# Altium schematic symbol library FerriteBeads.SchLib: 1 symbol
Pins are listed as number, name and electrical type; pins without a type are passive.

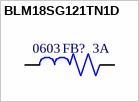
[diagram p0: symbol BLM18SG121TN1D]

## BLM18SG121TN1D
designator FB?, comment value 3A  Package: 0603  (hidden comment: 120 Ohms @ 100 MHz 1 Power Line Ferrite Bead 0603 (1608 Metric) 3A 25mOhm)
Ferrite Beads Multi-Layer 120Ohm 25% 100MHz 3A 0.025Ohm DCR 0603 T/R; Manufacturer: Murata; Manufacturer Part Number: BLM18SG121TN1D; Material: Steel,Ferrite; Impedance: 120R; Number of Lines: 1; DC Resistance (DCR): 25mR; Shielding: Unshielded; Supplier: Mouser; Supplier Part Number: 81-BLM18SG121TN1D; Category: Ferrite Beads and Chips; Stock: 158335; Pricing: 1=0.13, 10=0.073, 50=0.073, 100=0.051, 500=0.043, 1000=0.041, 2500=0.039, 5000=0.033, 10000=0.03 (USD); Case/Package: 0603; Pins: 2; Core Material: Ferrite; Case Code (Metric): 1608; Case Code (Imperial): 0603; Min Operating Temperature: -55°C; Max Operating Temperature: 125°C; Package Quantity: 1; Max Current Rating: 3A; Tolerance: 25%; Packaging: Tape and Reel; Current Rating: 3A; Max DC Current: 3A; Termination: SMD/SMT; Test Frequency: 100MHz; Frequency: 100MHz; Number of Circuits: 1; Series: BLM18S; DC Resistance-Max: 25mR; RMS Current (Irms): 3A; ESR: 25mR; Length: 1.6mm; Width: 0.8mm; Height: 0.8mm; Depth: 0.8mm; Reach SVHC Compliant: No; Lead Free: Lead Free; RoHS Compliant: Yes; ComponentLink1URL: https://datasheet.ciiva.com/1012/l0110s0100blm18s-1012624.pdf?src-supplier=Digikey; ComponentLink1Description: https://datasheet.ciiva.com/1012/l0110s0100blm18s-1012624.pdf?src-supplier=Digikey; ComponentLink2URL: https://datasheet.ciiva.com/11799/0900766b811b5866-11799181.pdf?src-supplier=Rs; ComponentLink2Description: https://datasheet.ciiva.com/11799/0900766b811b5866-11799181.pdf?src-supplier=Rs; ComponentLink3URL: https://datasheet.ciiva.com/18093/getdatasheetpartid-295885-18093249.pdf?src-supplier=Verical; ComponentLink3Description: https://datasheet.ciiva.com/18093/getdatasheetpartid-295885-18093249.pdf?src-supplier=Verical; ComponentLink4URL: https://datasheet.ciiva.com/41449/001171723-da-01-en-chip-drossel0603-120r-3000ma-1-6x0-8mm-41449353.pdf?src-supplier=Conrad; ComponentLink4Description: https://datasheet.ciiva.com/41449/001171723-da-01-en-chip-drossel0603-120r-3000ma-1-6x0-8mm-41449353.pdf?src-supplier=Conrad; ComponentLink5URL: https://datasheet.ciiva.com/41449/001172312-da-01-en-drossel-0603-120r-1-6x0-8mm-10000st-41449675.pdf?src-supplier=Conrad; ComponentLink5Description: https://datasheet.ciiva.com/41449/001172312-da-01-en-drossel-0603-120r-1-6x0-8mm-10000st-41449675.pdf?src-supplier=Conrad; ComponentLink6URL: https://datasheet.ciiva.com/8021/5151-8021511.pdf?src-supplier=Element14; ComponentLink6Description: https://datasheet.ciiva.com/8021/5151-8021511.pdf?src-supplier=Element14; ComponentLink7URL: https://datasheet.ciiva.com/8021/5151-8021512.pdf?src-supplier=Element14; ComponentLink7Description: https://datasheet.ciiva.com/8021/5151-8021512.pdf?src-supplier=Element14; ComponentLink8URL: https://datasheet.ciiva.com/14122/blm-series-eng-tds-14122906.pdf?src-supplier=Distrelec; ComponentLink8Description: https://datasheet.ciiva.com/14122/blm-series-eng-tds-14122906.pdf?src-supplier=Distrelec; ComponentLink9URL: https://datasheet.ciiva.com/1012/l0110s0100blm18s-1012623.pdf?src-supplier=Digikey; ComponentLink9Description: https://datasheet.ciiva.com/1012/l0110s0100blm18s-1012623.pdf?src-supplier=Digikey; ComponentLink10URL: https://datasheet.ciiva.com/1012/l0110s0100blm18s-1012625.pdf?src-supplier=Digikey; ComponentLink10Description: https://datasheet.ciiva.com/1012/l0110s0100blm18s-1012625.pdf?src-supplier=Digikey; ComponentLink11URL: https://datasheet.ciiva.com/16395/l0110s0100blm18s-16395498.pdf?src-supplier=Future+Electronics; ComponentLink11Description: https://datasheet.ciiva.com/16395/l0110s0100blm18s-16395498.pdf?src-supplier=Future+Electronics; RoHS: Yes
footprint FB-0603-ME (Footprint not found)
pins: 1, 2